# Altium schematic symbol library LED_Emergency_warning_lights.SchLib: 5 symbols
Pins are listed as number, name and electrical type; pins without a type are passive.

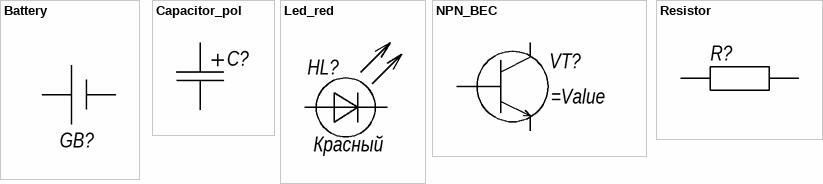
[diagram p0: symbols Battery to Resistor]

## Battery
designator GB?
ValueDescription: Батарея; ValueType: Батарея
footprint FP-653-MFG
pins: N, P

## Capacitor_pol
designator C?
ValueType: Конденсатор
footprint 0607_ELECTR_CAP
pins: 1, 2

## Led_red
designator HL?, comment Красный
ValueManufacturer: Foryard; ValueManufacturerPartNumber: fyls-0603urc; Temp: -40C...+85C; ValueDescription: Светодиод; Case: 0603; Value: Красный; ValueType: Светодиод
footprint 0603_LED_RED
pins: A 1, K 2

## NPN_BEC
designator VT?
footprint SOT-23
pins: 1 b, 2 e, 3 c

## Resistor
designator R?
ValueType: Резистор; Case: 0603
footprint 0603_RES
pins: 1, 2